# EAGLE library part DIN_MIDI_5P (library parts-for-kicad)
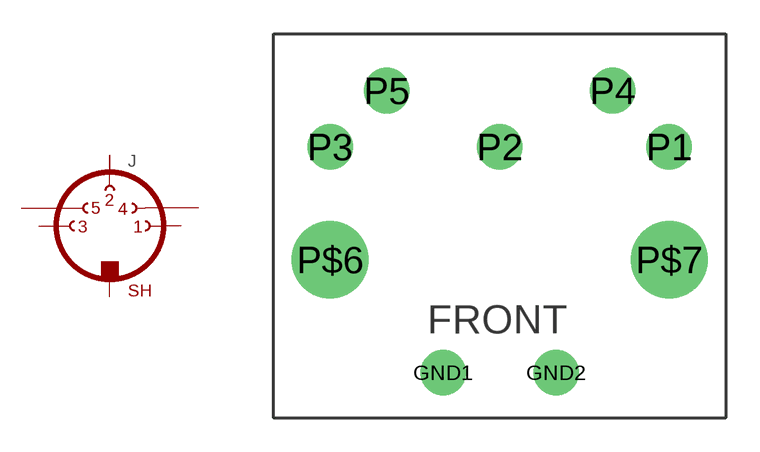
[diagram p0: symbol with the pads of 57PC5F; footprint 57PC5F]

Designator prefix J

## DIN_MIDI_5P  [57PC5F]
GND1  PE  pwr
GND2  PE  pwr
P1  1  pas
P2  2  pas
P3  3  pas
P4  4  pas
P5  5  pas

## Footprint 57PC5F (pad centres in mm)
drill 1.35: GND1 -2.5,-10; GND2 2.5,-10; P1 7.5,0; P2 0,0; P3 -7.5,0; P4 5,2.49; P5 -5,2.49
drill 2.39: P$6 -7.5,-5; P$7 7.5,-5